# EAGLE library part MAX3232 (library ic)
MAX3232: Dual RS232 transceiver 5.5V, 1Mbps
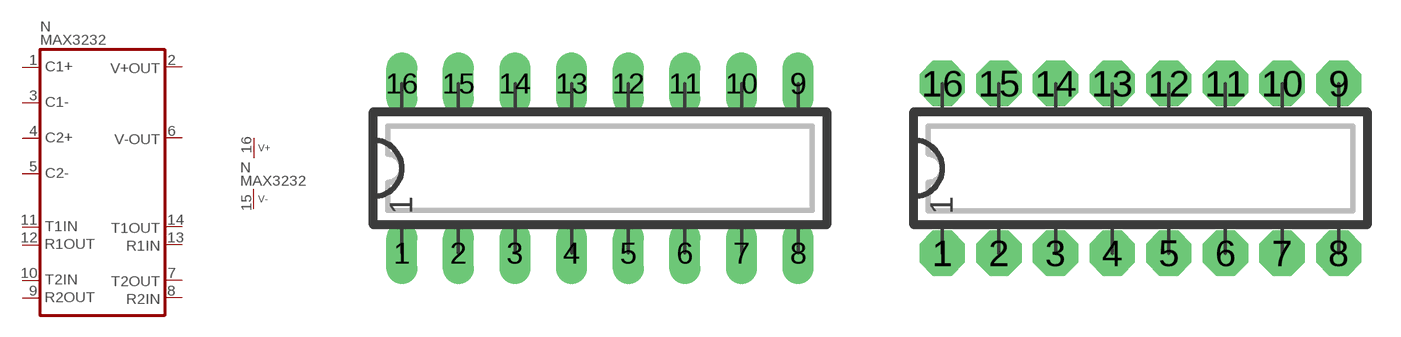
[diagram p102: symbol with the pads of DIP16L; footprints DIP16L, DIP16N]

Designator prefix N; gates  =MAX3232 P=V+-

## MAX3232  [DIP16L]
1   :C1+  pas
2   :V+OUT  out
3   :C1-  pas
4   :C2+  pas
5   :C2-  pas
6   :V-OUT  out
7   :T2OUT  out
8   :R2IN  in
9   :R2OUT  out
10   :T2IN  in
11   :T1IN  in
12   :R1OUT  out
13   :R1IN  in
14   :T1OUT  out
15  P:V-  pwr
16  P:V+  pwr

## MAX3232L  [DIP16L]
Pads as for DIP16L

## MAX3232N  [DIP16N]
Pads as for DIP16L

## MAX3232R  [DIP16R]
Pads as for DIP16L

## Footprint DIP16L (pad centres in mm)
DIP-16, long pads Standard IC package, 16 pins
drill 0.813 pad 1.397 long: 1 -8.89,-3.81; 2 -6.35,-3.81; 3 -3.81,-3.81; 4 -1.27,-3.81; 5 1.27,-3.81; 6 3.81,-3.81; 7 6.35,-3.81; 8 8.89,-3.81; 9 8.89,3.81; 10 6.35,3.81; 11 3.81,3.81; 12 1.27,3.81; 13 -1.27,3.81; 14 -3.81,3.81; 15 -6.35,3.81; 16 -8.89,3.81

## Footprint DIP16N (pad centres in mm)
DIP-16 Standard IC package, 16 pins
drill 0.813 pad 2.032 octagon: 1 -8.89,-3.81; 2 -6.35,-3.81; 3 -3.81,-3.81; 4 -1.27,-3.81; 5 1.27,-3.81; 6 3.81,-3.81; 7 6.35,-3.81; 8 8.89,-3.81; 9 8.89,3.81; 10 6.35,3.81; 11 3.81,3.81; 12 1.27,3.81; 13 -1.27,3.81; 14 -3.81,3.81; 15 -6.35,3.81; 16 -8.89,3.81

## Footprint DIP16R (pad centres in mm)
DIP-16, reduced pads Standard IC package, 16 pins
drill 0.813 pad 1.397 square: 1 -8.89,-3.81; 2 -6.35,-3.81; 3 -3.81,-3.81; 4 -1.27,-3.81; 5 1.27,-3.81; 6 3.81,-3.81; 7 6.35,-3.81; 8 8.89,-3.81; 9 8.89,3.81; 10 6.35,3.81; 11 3.81,3.81; 12 1.27,3.81; 13 -1.27,3.81; 14 -3.81,3.81; 15 -6.35,3.81; 16 -8.89,3.81